# Altium footprint library SOD80C.PcbLib: 1 footprints
Each footprint in its own frame and in the unit in brackets; x right, y up, seen from the top. Pads: shape width x height; smd on the part's side, far side on the other; paste and mask are expansions set on the pad; w line width, h text height; cw(c..) or ccw(c..) is an arc to the next point about the centre after c.
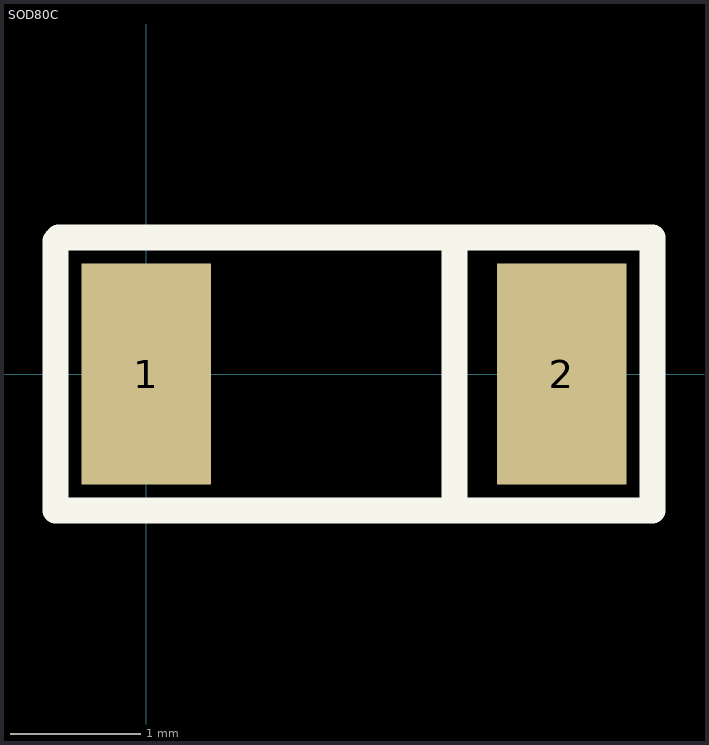
[diagram p0: the footprint, top view; thin cyan lines are the x and y axes]

## SOD80C [mm]
pads (2):
  rect 1x1.7 smd: 1(0,0) 2(3.2,0)
Top Overlay:
  lines w0.2: 2.375,-1.05 2.375,1.05 ; -0.7,-1.05 -0.7,1.025 -0.675,1.05 3.9,1.05 3.9,-1.05 -0.7,-1.05
3D body: height 1.6, standoff 0, extent -0.225,-0.8 3.475,0.8